# Altium schematic symbol library Power_IC.SchLib: 1 symbol
Pins are listed as number, name and electrical type; pins without a type are passive.

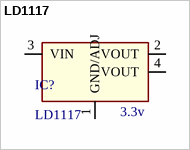
[diagram p0: symbol LD1117]

## LD1117
designator IC?  Voltage: 3.3v
LD1117S33TR
footprint SOT223-4 (SOT223, 4-Leads, Body 6,50x7,00mm (avg), Pitch 2,30mm, IPC Medium Density)
pins: 1 GND/ADJ, 2 VOUT, 3 VIN, 4 VOUT